# Altium footprint library RLB.PcbLib: 2 footprints
Each footprint in its own frame and in the unit in brackets; x right, y up, seen from the top. Pads: shape width x height; smd on the part's side, far side on the other; paste and mask are expansions set on the pad; w line width, h text height; cw(c..) or ccw(c..) is an arc to the next point about the centre after c.
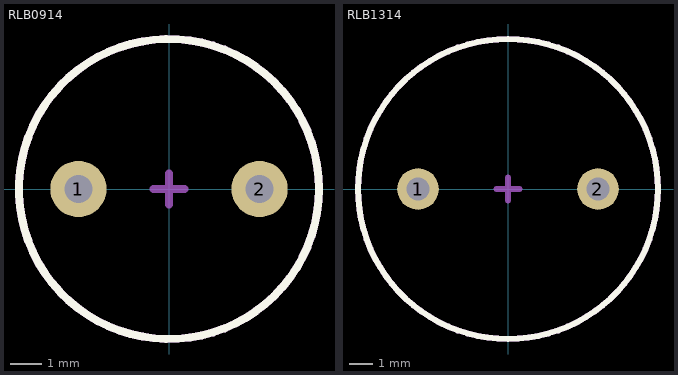
[diagram p0: the footprints below, top view; thin cyan lines are the x and y axes]

## RLB0914 [mm]
pads (2):
  round 1.8 hole 0.9: 1(-2.9,0) 2(2.9,0)
Top Overlay:
  circle w0.254: c0,0 r4.8
Assembly:
  circle w0.254: c0,0 r4.8
Mechanical 15:
  circle w0.254: c0,0 r4.8
  lines w0.254: -0.5,0 0.5,0 ; 0,-0.5 0,0.5
3D body "RLB0914.step": height 13, standoff -5, extent -4.6,-4.6 4.6,4.6

## RLB1314 [mm]
pads (2):
  round 1.8 hole 1: 1(-3.9,0) 2(3.9,0)
Top Overlay:
  circle w0.254: c0,0 r6.5
Assembly:
  circle w0.254: c0,0 r6.5
Mechanical 15:
  circle w0.254: c0,0 r6.5
  lines w0.254: -0.5,0 0.5,0 ; 0,-0.5 0,0.5
3D body "RLB1314.step": height 13, standoff -5, extent -6.25,-6.25 6.25,6.25